# Altium schematic symbol library U_KSZ8895.SchLib: 1 symbol
Pins are listed as number, name and electrical type; pins without a type are passive.

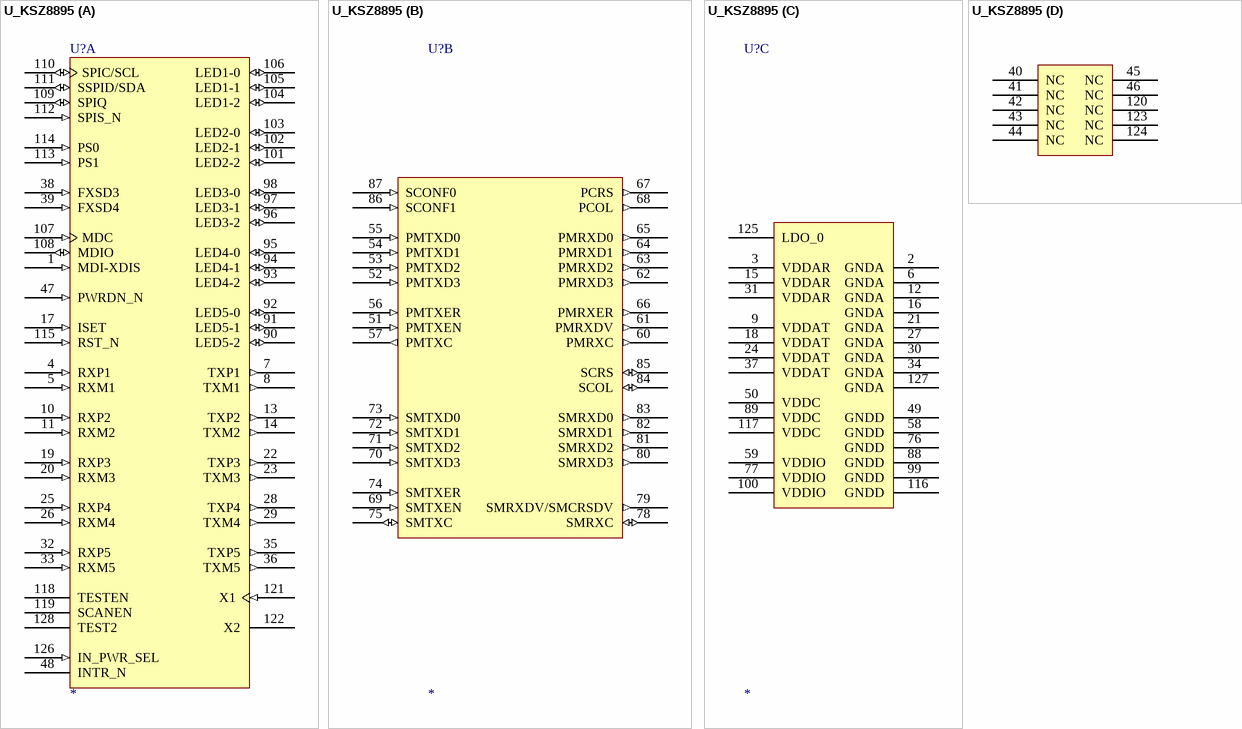
[diagram p0: symbol U_KSZ8895]

## U_KSZ8895
designator U?
part A pins: 1 MDI-XDIS (in) "Disable auto MDI/MDI-X.", 4 RXP1 (in) "Physical receive signal + (differential).", 5 RXM1 (in) "Physical receive signal - (differential).", 7 TXP1 (out) "Physical transmit signal + (differential).", 8 TXM1 (out) "Physical transmit signal - (differential).", 10 RXP2 (in) "Physical receive signal + (differential).", 11 RXM2 (in) "Physical receive signal - (differential).", 13 TXP2 (out) "Physical transmit signal + (differential).", 14 TXM2 (out) "Physical transmit signal - (differential).", 17 ISET (in) "Set physical transmit output current. Pull-down with a 12.4kohm1% resistor.", 19 RXP3 (in) "Physical receive signal + (differential).", 20 RXM3 (in) "Physical receive signal - (differential).", 22 TXP3 (out) "Physical transmit signal + (differential).", 23 TXM3 (out) "Physical transmit signal - (differential).", 25 RXP4 (in) "Physical receive signal + (differential).", 26 RXM4 (in) "Physical receive signal - (differential).", 28 TXP4 (out) "Physical transmit signal + (differential).", 29 TXM4 (out) "Physical transmit signal - (differential).", 32 RXP5 (in) "Physical receive signal + (differential).", 33 RXM5 (in) "Physical receive signal - (differential).", 35 TXP5 (out) "Physical transmit signal + (differential).", 36 TXM5 (out) "Physical transmit signal - (differential).", 38 FXSD3 (in) "FMQ: Fiber signal detect pin for Port 3.", 39 FXSD4 (in) "FMQ: Fiber signal detect pin for Port 4.", 47 PWRDN_N (in) "Full-chip power down. Active low.", 48 INTR_N (oc) "Interrupt. This pin is Open-Drain output pin.", 90 LED5-2 (io) "LED indicator 2.", 91 LED5-1 (io) "LED indicator 1.", 92 LED5-0 (io) "LED indicator 0.", 93 LED4-2 (io) "LED indicator 2.", 94 LED4-1 (io) "LED indicator 1.", 95 LED4-0 (io) "LED indicator 0.", 96 LED3-2 (io) "LED indicator 2.", 97 LED3-1 (io) "LED indicator 1.", 98 LED3-0 (io) "LED indicator 0.", 101 LED2-2 (io) "LED indicator 2.", 102 LED2-1 (io) "LED indicator 1.", 103 LED2-0 (io) "LED indicator 0.", 104 LED1-2 (io) "LED indicator 2.", 105 LED1-1 (io) "LED indicator 1.", 106 LED1-0 (io) "LED indicator 0.", 107 MDC (in) "Switch or PHY[5]MII management (MIIM registers) data clock. Or SMI interface clock.", 108 MDIO (io) "Switch or PHY[5]MII management (MIIM registers) data I/O. Or SMI interface I/O.", 109 SPIQ (io) "SPI serial data output in SPI slave mode.", 110 SPIC/SCL (io), 111 SSPID/SDA (io), 112 SPIS_N (in) "Active low.", 113 PS1 (in) "Serial bus configuration pin.", 114 PS0 (in) "Serial bus configuration pin.", 115 RST_N (in) "Reset the KSZ8895MQ/RQ/FMQ device. Active low.", 118 TESTEN "NC for normal operation. Factory test pin.", 119 SCANEN "NC for normal operation. Factory test pin.", 121 X1 (in) "25MHz crystal clock connection/or 3.3V Oscillator input. Crystal/Oscillator should be +/-50ppm tolerance.", 122 X2 "25MHz crystal clock connection.", 126 IN_PWR_SEL (in) "Pull-up to enable LDO_O of pin 125. Pull-down to disable LDO_O", 128 TEST2 "NC for normal operation. Factory test pin."
part B pins: 51 PMTXEN (in) "PHY[5] MII/RMII transmit enable.", 52 PMTXD3 (in) "MQ/FMQ: PHY[5] MII transmit bit 3.RQ: no connection for RMII.", 53 PMTXD2 (in) "MQ/FMQ: PHY[5] MII transmit bit 2.RQ: no connection for RMII.", 54 PMTXD1 (in) "PHY[5] MII transmit bit 1.", 55 PMTXD0 (in) "PHY[5] MII transmit bit 0.", 56 PMTXER (in) "MQ/FMQ: PHY[5] MII transmit error. RQ: no connection for RMII.", 57 PMTXC (out) "MQ/FMQ: Output PHY[5] MII transmit clock. RQ: Input PHY[5] RMII reference clock, 50MHz +/-50 ppm, the 50MHz clock comes from PMRXC Pin 60.", 60 PMRXC (out) "MQ/FMQ: Output PHY[5] MII receive clock. RQ: Output PHY[5] RMII reference clock, this clock is used when opposite doesn't provide RMII 50MHz clock or the system doesn't provide an external 50MHz clock for the P5-RMII interface.", 61 PMRXDV (out) "MQ/FMQ: PMRXDV is for PHY[5] MII receive data valid.RQ: PMCRSDV is for PHY[5] RMII Carrier Sense/Receive Data Valid Output.", 62 PMRXD3 (out) "MQ/FMQ: PHY[5] MII receive bit 3.RQ: no connection for RMII.", 63 PMRXD2 (out) "MQ/FMQ: PHY[5] MII receive bit 2.RQ: no connection for RMII.", 64 PMRXD1 (out) "PHY[5] MII receive bit 1.", 65 PMRXD0 (out) "PHY[5] MII receive bit 0.", 66 PMRXER (out) "MQ/FMQ: PHY[5] MII receive error.RQ: no connection for RMII.", 67 PCRS (out) "MQ/FMQ: PHY[5] MII carrier sense.RQ: no connection for RMII.", 68 PCOL (out) "MQ/FMQ: PHY[5] MII collision detect.RQ: no connection.", 69 SMTXEN (in) "Port 5 Switch MII/RMII transmit enable.", 70 SMTXD3 (in) "MQ/FMQ: Port 5 Switch MII transmit bit 3. RQ: no connection for RMII.", 71 SMTXD2 (in) "MQ/FMQ: Port 5 Switch MII transmit bit 2. RQ: no connection for RMII.", 72 SMTXD1 (in) "MQ/FMQ: Port 5 Switch MII transmit bit 1.", 73 SMTXD0 (in) "MQ/FMQ: Port 5 Switch MII transmit bit 0.", 74 SMTXER (in) "MQ/FMQ: Port 5 Switch MII transmit error. RQ: no connection for RMII.", 75 SMTXC (io) "MQ/FMQ: Port 5 Switch MII transmit clock, Input: SW5-MII MAC mode, Output:SW5-MII PHY modes. RQ: Input SW5-RMII 50 MHz +/-  50 ppm reference clock. The 50 MHz clock comes from SMRXC Pin 78 when the device is the clock mode which the device's clock comes from 25MHz crystal/oscillator from pins X1/X2. Or the 50MHz clock comes from external 50MHz clock source when the device is the normal mode which the device's clock source comes from SMTXC pin not from X1/X2 pins.", 78 SMRXC (io) "MQ/FMQ: Port 5 Switch MII receive clock, Input: SW5-MII MAC mode, Output:SW5-MII PHY modes. RQ: Output SW5-RMII 50 MHz clock, this clock is used when opposite doesn't provide RMII reference clock or the system doesn't provide an external 50MHz clock for the RMII interface.", 79 SMRXDV/SMCRSDV (out) "MQ/FMQ: SMRXDV is fo Switch MAC5 MII receive data valid. RQ: SMCRSDV is for MAC5 RMII Carrier Sense/Receive Data Valid Output.", 80 SMRXD3 (out) "MQ/FMQ: Port 5 Switch MII receive bit 3. RQ: no connection for RMII.", 81 SMRXD2 (out) "MQ/FMQ: Port 5 Switch MII receive bit 2. RQ: no connection for RMII.", 82 SMRXD1 (out) "MQ/FMQ: Port 5 Switch MII receive bit 1.", 83 SMRXD0 (out) "MQ/FMQ: Port 5 Switch MII receive bit 0.", 84 SCOL (io) "MQ/FMQ: Port 5 Switch MII collision detect, Input: SW5-MII MAC modes, Output: SW5-MII PHY modes. RQ: no connection for RMII.", 85 SCRS (io) "MQ/FMQ: Port 5 Switch MII modes carrier sense, Input: SW5-MII MAC modes, Output: SW5-MII PHY modes. RQ: no connection for RMII.", 86 SCONF1 (in) "Pins 91,86, and 87 are dual MII.RMII configuration pins for the Port 5MAC5 MII/RMII and PHY[5] MII/RMII. SW5-MII supports both MAC mode and PHY modes. P5-MII supports PHY mode only.", 87 SCONF0 (in) "Dual MII/RMII configuration pin."
part C pins: 2 GNDA (power) "Analog ground.", 3 VDDAR (power) "1.2V analog VDD.", 6 GNDA (power) "Analog ground.", 9 VDDAT (power) "3.3V analog VDD.", 12 GNDA (power) "Analog ground.", 15 VDDAR (power) "1.2V analog VDD.", 16 GNDA (power) "Analog ground.", 18 VDDAT (power) "3.3V analog VDD.", 21 GNDA (power) "Analog ground.", 24 VDDAT (power) "3.3V analog VDD.", 27 GNDA (power) "Analog ground.", 30 GNDA (power) "Analog ground.", 31 VDDAR (power) "1.2V analog VDD.", 34 GNDA (power) "Analog ground.", 37 VDDAT (power) "3.3V analog VDD.", 49 GNDD (power) "Digital ground.", 50 VDDC (power) "1.2V digital core VDD.", 58 GNDD (power) "Digital ground.", 59 VDDIO (power) "3.3V, 2.5V or 1.8V digital VDD for digital I/O circuitry.", 76 GNDD (power) "Digital ground.", 77 VDDIO (power) "3.3V, 2.5V or 1.8V digital VDD for digital I/O circuitry.", 88 GNDD (power) "Digital ground.", 89 VDDC (power) "1.2V digital core VDD.", 99 GNDD (power) "Digital ground.", 100 VDDIO (power) "3.3V, 2.5V or 1.8V digital VDD for digital I/O circuitry.", 116 GNDD (power) "Digital ground.", 117 VDDC (power) "1.2V digital core VDD.", 125 LDO_0 (power) "When pin126 is pull-up, the Internal 1.2V, LDO controller is enabled and creates a 1.2V output when using an external FET. When pin126 is pull -down, the pin 125 is trisstaed.", 127 GNDA (power) "Analog ground."
part D pins: 40 NC "No connect.", 41 NC "No connect.", 42 NC "No connect.", 43 NC "No connect.", 44 NC "No connect.", 45 NC "No connect.", 46 NC "No connect.", 120 NC "No connect.", 123 NC "No connect.", 124 NC "No connect."